# Altium schematic symbol library LME49990.Schlib: 1 symbol
Pins are listed as number, name and electrical type; pins without a type are passive.

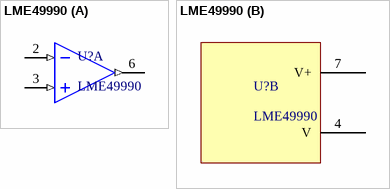
[diagram p0: symbol LME49990]

## LME49990
designator U?
Ultra-low Distortion, Ultra-low Noise Operational Amplifier
part A pins: 2 IN- (in), 3 IN+ (in), 6 OUT (out)
part B pins: 4 V (power), 7 V+ (power)